# Altium integrated library FPGA PB03 Port-Plugin.IntLib: 3 symbols
Pins are listed as number, name and electrical type; pins without a type are passive.

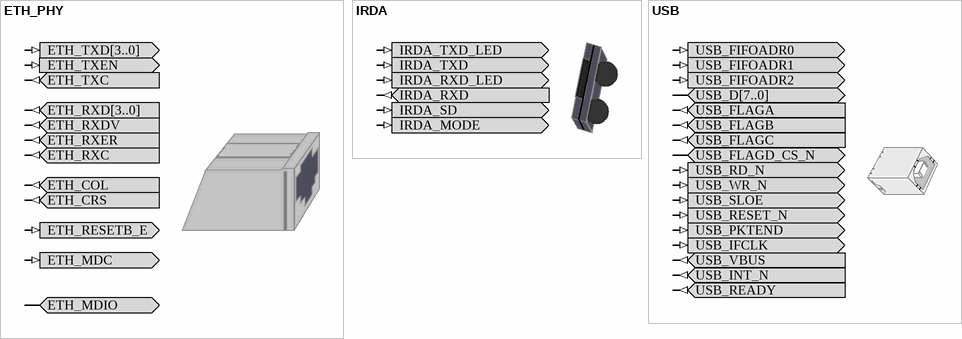
[diagram p0: symbols ETH_PHY to USB]

## ETH_PHY
designator ?
Ethernet PHY-interface; PortComponent: True; Published: 22-Jan-2007; Publisher: Altium Limited; HelpURL: https://wiki.altium.com/display/ADOH/PB03+Resources+-+Ethernet+Port
pins: ETH_COL (out), ETH_CRS (out), ETH_MDC (in), ETH_MDIO (io), ETH_RESETB_E (in), ETH_RXC (out), ETH_RXD[3..0] (out), ETH_RXDV (out), ETH_RXER (out), ETH_TXC (out), ETH_TXD[3..0] (in), ETH_TXEN (in)

## IRDA
designator ?
4 Mbits/s IRDA; PortComponent: True; Published: 22-Jan-2007; Publisher: Altium Limited; HelpURL: https://wiki.altium.com/display/ADOH/PB03+Resources+-+IrDA+Interface
pins: IRDA_MODE (in), IRDA_RXD (out), IRDA_RXD_LED (in), IRDA_SD (in), IRDA_TXD (in), IRDA_TXD_LED (in)

## USB
designator ?
High Speed USB 2.0; PortComponent: True; Published: 22-Jan-2007; Publisher: Altium Limited; HelpURL: https://wiki.altium.com/display/ADOH/PB03+Resources+-+USB+Port
pins: USB_D[7..0] (io), USB_FIFOADR0 (in), USB_FIFOADR1 (in), USB_FIFOADR2 (in), USB_FLAGA (out), USB_FLAGB (out), USB_FLAGC (out), USB_FLAGD_CS_N (io), USB_IFCLK (in), USB_INT_N (out), USB_PKTEND (in), USB_RD_N (in), USB_READY (out), USB_RESET_N (in), USB_SLOE (in), USB_VBUS (out), USB_WR_N (in)